# Altium footprint library PCBLib.PcbLib: 5 footprints
Each footprint in its own frame and in the unit in brackets; x right, y up, seen from the top. Pads: shape width x height; smd on the part's side, far side on the other; paste and mask are expansions set on the pad; w line width, h text height; cw(c..) or ccw(c..) is an arc to the next point about the centre after c.
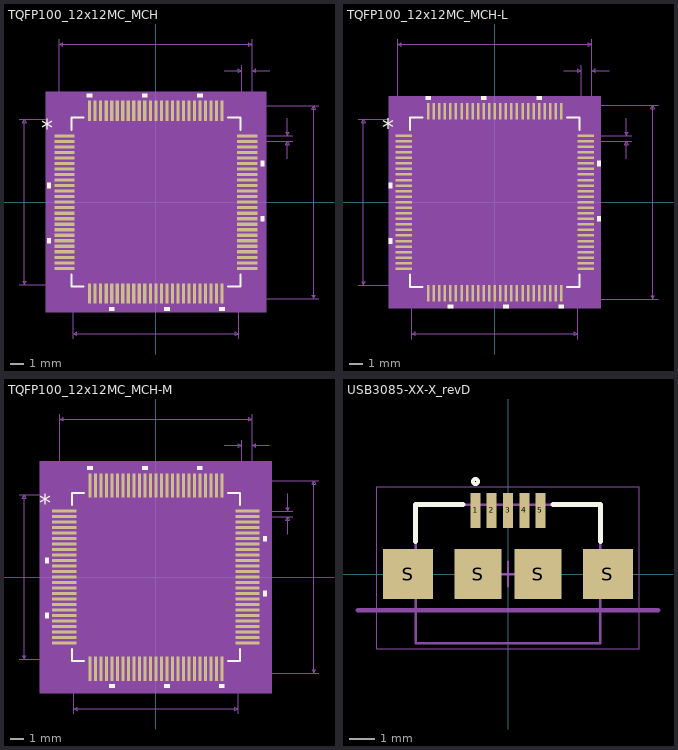
[diagram p0: the footprints below, top view; thin cyan lines are the x and y axes]

## PCBComponent_1 [mil]

## TQFP100_12x12MC_MCH [mil]
pads (100):
  rect 58x9 smd paste+0 mask+0: 1(-260.5,188.98) 2(-260.5,173.23) 3(-260.5,157.48) 4(-260.5,141.73) 5(-260.5,125.98) 6(-260.5,110.24) 7(-260.5,94.49) 8(-260.5,78.74) 9(-260.5,62.99) 10(-260.5,47.24) 11(-260.5,31.5) 12(-260.5,15.75) 13(-260.5,0) 14(-260.5,-15.75) 15(-260.5,-31.5) 16(-260.5,-47.24) 17(-260.5,-62.99) 18(-260.5,-78.74) 19(-260.5,-94.49) 20(-260.5,-110.24) 21(-260.5,-125.98) 22(-260.5,-141.73) 23(-260.5,-157.48) 24(-260.5,-173.23) 25(-260.5,-188.98) 51(260.5,-188.98) 52(260.5,-173.23) 53(260.5,-157.48) 54(260.5,-141.73) 55(260.5,-125.98) 56(260.5,-110.24) 57(260.5,-94.49) 58(260.5,-78.74) 59(260.5,-62.99) 60(260.5,-47.24) 61(260.5,-31.5) 62(260.5,-15.75) 63(260.5,0) 64(260.5,15.75) 65(260.5,31.5) 66(260.5,47.24) 67(260.5,62.99) 68(260.5,78.74) 69(260.5,94.49) 70(260.5,110.24) 71(260.5,125.98) 72(260.5,141.73) 73(260.5,157.48) 74(260.5,173.23) 75(260.5,188.98)
  rect 9x58 smd paste+0 mask+0: 26(-188.98,-260.5) 27(-173.23,-260.5) 28(-157.48,-260.5) 29(-141.73,-260.5) 30(-125.98,-260.5) 31(-110.24,-260.5) 32(-94.49,-260.5) 33(-78.74,-260.5) 34(-62.99,-260.5) 35(-47.24,-260.5) 36(-31.5,-260.5) 37(-15.75,-260.5) 38(0,-260.5) 39(15.75,-260.5) 40(31.5,-260.5) 41(47.24,-260.5) 42(62.99,-260.5) 43(78.74,-260.5) 44(94.49,-260.5) 45(110.24,-260.5) 46(125.98,-260.5) 47(141.73,-260.5) 48(157.48,-260.5) 49(173.23,-260.5) 50(188.98,-260.5) 76(188.98,260.5) 77(173.23,260.5) 78(157.48,260.5) 79(141.73,260.5) 80(125.98,260.5) 81(110.24,260.5) 82(94.49,260.5) 83(78.74,260.5) 84(62.99,260.5) 85(47.24,260.5) 86(31.5,260.5) 87(15.75,260.5) 88(0,260.5) 89(-15.75,260.5) 90(-31.5,260.5) 91(-47.24,260.5) 92(-62.99,260.5) 93(-78.74,260.5) 94(-94.49,260.5) 95(-110.24,260.5) 96(-125.98,260.5) 97(-141.73,260.5) 98(-157.48,260.5) 99(-173.23,260.5) 100(-188.98,260.5)
Top Overlay:
  region: -181.48,299.5 -196.48,299.5 -196.48,309.5 -181.48,309.5
  region: -24,299.5 -39,299.5 -39,309.5 -24,309.5
  region: 133.48,299.5 118.48,299.5 118.48,309.5 133.48,309.5
  region: 299.5,117.74 309.5,117.74 309.5,102.74 299.5,102.74
  region: 299.5,-39.74 309.5,-39.74 309.5,-54.74 299.5,-54.74
  region: 196.48,-299.5 181.48,-299.5 181.48,-309.5 196.48,-309.5
  region: 39,-299.5 24,-299.5 24,-309.5 39,-309.5
  region: -118.48,-299.5 -133.48,-299.5 -133.48,-309.5 -118.48,-309.5
  region: -299.5,-102.74 -309.5,-102.74 -309.5,-117.74 -299.5,-117.74
  region: -299.5,54.74 -309.5,54.74 -309.5,39.74 -299.5,39.74
  lines w6: -241,-206.58 -241,-241 -206.58,-241 ; -241,206.58 -241,241 -206.58,241 ; 206.58,-241 241,-241 241,-206.58 ; 206.58,241 241,241 241,206.58
  text "*" at -327,186.85 h50
Mechanical 5:
  region: 314.5,-314.5 -314.5,-314.5 -314.5,314.5 314.5,314.5
Mechanical 7:
  lines w1: -390.5,-236 -188.98,-236 ; -390.5,236 -188.98,236 ; -275.5,188.98 -275.5,465.5 ; -236,-390.5 -236,-188.98 ; 188.98,-275.5 465.5,-275.5 ; 188.98,275.5 465.5,275.5 ; 195.5,375.5 245.5,375.5 ; 236,-390.5 236,-188.98 ; 245.5,188.98 245.5,390.5 ; 260.5,173.23 390.5,173.23 ; 260.5,188.98 390.5,188.98 ; 275.5,390.5 275.5,188.98 275.5,465.5 ; 325.5,375.5 275.5,375.5 ; 375.5,123.23 375.5,173.23 ; 375.5,238.98 375.5,188.98 ; -375.5,-236 -370.5,-226 -380.5,-226 -375.5,-236 ; -375.5,-236 -375.5,236 ; -375.5,236 -370.5,226 -380.5,226 -375.5,236 ; -275.5,450.5 -265.5,445.5 -265.5,455.5 -275.5,450.5 ; -275.5,450.5 275.5,450.5 ; -236,-375.5 -226,-380.5 -226,-370.5 -236,-375.5 ; -236,-375.5 236,-375.5 ; 236,-375.5 226,-380.5 226,-370.5 236,-375.5 ; 245.5,375.5 235.5,370.5 235.5,380.5 245.5,375.5 ; 275.5,375.5 285.5,370.5 285.5,380.5 275.5,375.5 ; 275.5,450.5 265.5,445.5 265.5,455.5 275.5,450.5 ; 375.5,173.23 380.5,163.23 370.5,163.23 375.5,173.23 ; 375.5,188.98 380.5,198.98 370.5,198.98 375.5,188.98 ; 450.5,-275.5 455.5,-265.5 445.5,-265.5 450.5,-275.5 ; 450.5,-275.5 450.5,275.5 ; 450.5,275.5 455.5,265.5 445.5,265.5 450.5,275.5
  text "0.551in/13.995mm" at 470.5,-12.5 h25
  text "0.472in/11.989mm" at -595.5,-12.5 h25
  text "0.472in/11.989mm" at -100,-420.5 h25
  text "0.551in/13.995mm" at -100,470.5 h25
  text "0.03in/0.762mm" at 173,395.5 h25
  text "0.016in/0.4mm" at 395.5,168.6 h25
  text "Alt 2 Padstyle: OX90Y60D30P" at -337.5,-825.5 h50
  text "Alt 1 Padstyle: OX60Y90D30P" at -337.5,-765.5 h50
  text "Default Vert Padstyle: RX9Y58D0T" at -400,-585.5 h50
  text "Default Horiz Padstyle: RX9Y58D0T" at -412.5,-525.5 h50
Mechanical 13:
  drawing of 405 lines, arcs and shapes, not listed
  text "*" at -233.5,171.85 h50
Mechanical 15:
  region: -203.48,-246 -246,-246 -246,-203.48 -299.5,-203.48 -299.5,203.48 -246,203.48 -246,246 -203.48,246 -203.48,299.5 203.48,299.5 203.48,246 246,246 246,203.48 299.5,203.48 299.5,-203.48 246,-203.48 246,-246 203.48,-246 203.48,-299.5 -203.48,-299.5
  lines w6: -299.5,-203.48 -299.5,203.48 -246,203.48 -246,246 -203.48,246 -203.48,299.5 203.48,299.5 203.48,246 246,246 246,203.48 299.5,203.48 299.5,-203.48 246,-203.48 246,-246 203.48,-246 203.48,-299.5 -203.48,-299.5 -203.48,-246 -246,-246 -246,-203.48 -299.5,-203.48
3D body: height 10, standoff 0, extent 0,0 10,10

## TQFP100_12x12MC_MCH-L [mil]
pads (100):
  rect 46x7 smd paste+0 mask+0: 1(-258.5,188.98) 2(-258.5,173.23) 3(-258.5,157.48) 4(-258.5,141.73) 5(-258.5,125.98) 6(-258.5,110.24) 7(-258.5,94.49) 8(-258.5,78.74) 9(-258.5,62.99) 10(-258.5,47.24) 11(-258.5,31.5) 12(-258.5,15.75) 13(-258.5,0) 14(-258.5,-15.75) 15(-258.5,-31.5) 16(-258.5,-47.24) 17(-258.5,-62.99) 18(-258.5,-78.74) 19(-258.5,-94.49) 20(-258.5,-110.24) 21(-258.5,-125.98) 22(-258.5,-141.73) 23(-258.5,-157.48) 24(-258.5,-173.23) 25(-258.5,-188.98) 51(258.5,-188.98) 52(258.5,-173.23) 53(258.5,-157.48) 54(258.5,-141.73) 55(258.5,-125.98) 56(258.5,-110.24) 57(258.5,-94.49) 58(258.5,-78.74) 59(258.5,-62.99) 60(258.5,-47.24) 61(258.5,-31.5) 62(258.5,-15.75) 63(258.5,0) 64(258.5,15.75) 65(258.5,31.5) 66(258.5,47.24) 67(258.5,62.99) 68(258.5,78.74) 69(258.5,94.49) 70(258.5,110.24) 71(258.5,125.98) 72(258.5,141.73) 73(258.5,157.48) 74(258.5,173.23) 75(258.5,188.98)
  rect 7x46 smd paste+0 mask+0: 26(-188.98,-258.5) 27(-173.23,-258.5) 28(-157.48,-258.5) 29(-141.73,-258.5) 30(-125.98,-258.5) 31(-110.24,-258.5) 32(-94.49,-258.5) 33(-78.74,-258.5) 34(-62.99,-258.5) 35(-47.24,-258.5) 36(-31.5,-258.5) 37(-15.75,-258.5) 38(0,-258.5) 39(15.75,-258.5) 40(31.5,-258.5) 41(47.24,-258.5) 42(62.99,-258.5) 43(78.74,-258.5) 44(94.49,-258.5) 45(110.24,-258.5) 46(125.98,-258.5) 47(141.73,-258.5) 48(157.48,-258.5) 49(173.23,-258.5) 50(188.98,-258.5) 76(188.98,258.5) 77(173.23,258.5) 78(157.48,258.5) 79(141.73,258.5) 80(125.98,258.5) 81(110.24,258.5) 82(94.49,258.5) 83(78.74,258.5) 84(62.99,258.5) 85(47.24,258.5) 86(31.5,258.5) 87(15.75,258.5) 88(0,258.5) 89(-15.75,258.5) 90(-31.5,258.5) 91(-47.24,258.5) 92(-62.99,258.5) 93(-78.74,258.5) 94(-94.49,258.5) 95(-110.24,258.5) 96(-125.98,258.5) 97(-141.73,258.5) 98(-157.48,258.5) 99(-173.23,258.5) 100(-188.98,258.5)
Top Overlay:
  region: -181.48,291.5 -196.48,291.5 -196.48,301.5 -181.48,301.5
  region: -24,291.5 -39,291.5 -39,301.5 -24,301.5
  region: 133.48,291.5 118.48,291.5 118.48,301.5 133.48,301.5
  region: 291.5,117.74 301.5,117.74 301.5,102.74 291.5,102.74
  region: 291.5,-39.74 301.5,-39.74 301.5,-54.74 291.5,-54.74
  region: 196.48,-291.5 181.48,-291.5 181.48,-301.5 196.48,-301.5
  region: 39,-291.5 24,-291.5 24,-301.5 39,-301.5
  region: -118.48,-291.5 -133.48,-291.5 -133.48,-301.5 -118.48,-301.5
  region: -291.5,-102.74 -301.5,-102.74 -301.5,-117.74 -291.5,-117.74
  region: -291.5,54.74 -301.5,54.74 -301.5,39.74 -291.5,39.74
  lines w6: -241,-205.58 -241,-241 -205.58,-241 ; -241,205.58 -241,241 -205.58,241 ; 205.58,-241 241,-241 241,-205.58 ; 205.58,241 241,241 241,205.58
  text "*" at -319,186.85 h50
Mechanical 5:
  region: 300.5,-300.5 -300.5,-300.5 -300.5,300.5 300.5,300.5
Mechanical 7:
  lines w1: -388.5,-236 -188.98,-236 ; -388.5,236 -188.98,236 ; -275.5,188.98 -275.5,463.5 ; -236,-388.5 -236,-188.98 ; 188.98,-275.5 463.5,-275.5 ; 188.98,275.5 463.5,275.5 ; 195.5,373.5 245.5,373.5 ; 236,-388.5 236,-188.98 ; 245.5,188.98 245.5,388.5 ; 258.5,173.23 388.5,173.23 ; 258.5,188.98 388.5,188.98 ; 275.5,388.5 275.5,188.98 275.5,463.5 ; 325.5,373.5 275.5,373.5 ; 373.5,123.23 373.5,173.23 ; 373.5,238.98 373.5,188.98 ; -373.5,-236 -368.5,-226 -378.5,-226 -373.5,-236 ; -373.5,-236 -373.5,236 ; -373.5,236 -368.5,226 -378.5,226 -373.5,236 ; -275.5,448.5 -265.5,443.5 -265.5,453.5 -275.5,448.5 ; -275.5,448.5 275.5,448.5 ; -236,-373.5 -226,-378.5 -226,-368.5 -236,-373.5 ; -236,-373.5 236,-373.5 ; 236,-373.5 226,-378.5 226,-368.5 236,-373.5 ; 245.5,373.5 235.5,368.5 235.5,378.5 245.5,373.5 ; 275.5,373.5 285.5,368.5 285.5,378.5 275.5,373.5 ; 275.5,448.5 265.5,443.5 265.5,453.5 275.5,448.5 ; 373.5,173.23 378.5,163.23 368.5,163.23 373.5,173.23 ; 373.5,188.98 378.5,198.98 368.5,198.98 373.5,188.98 ; 448.5,-275.5 453.5,-265.5 443.5,-265.5 448.5,-275.5 ; 448.5,-275.5 448.5,275.5 ; 448.5,275.5 453.5,265.5 443.5,265.5 448.5,275.5
  text "0.551in/13.995mm" at 468.5,-12.5 h25
  text "0.472in/11.989mm" at -593.5,-12.5 h25
  text "0.472in/11.989mm" at -100,-418.5 h25
  text "0.551in/13.995mm" at -100,468.5 h25
  text "0.03in/0.762mm" at 173,393.5 h25
  text "0.016in/0.4mm" at 393.5,168.6 h25
  text "Alt 2 Padstyle: OX90Y60D30P" at -337.5,-823.5 h50
  text "Alt 1 Padstyle: OX60Y90D30P" at -337.5,-763.5 h50
  text "Default Vert Padstyle: RX7Y46D0T" at -400,-583.5 h50
  text "Default Horiz Padstyle: RX7Y46D0T" at -412.5,-523.5 h50
Mechanical 13:
  drawing of 405 lines, arcs and shapes, not listed
  text "*" at -233.5,171.85 h50
Mechanical 15:
  region: -196.48,-240 -240,-240 -240,-196.48 -285.5,-196.48 -285.5,196.48 -240,196.48 -240,240 -196.48,240 -196.48,285.5 196.48,285.5 196.48,240 240,240 240,196.48 285.5,196.48 285.5,-196.48 240,-196.48 240,-240 196.48,-240 196.48,-285.5 -196.48,-285.5
  lines w6: -285.5,-196.48 -285.5,196.48 -240,196.48 -240,240 -196.48,240 -196.48,285.5 196.48,285.5 196.48,240 240,240 240,196.48 285.5,196.48 285.5,-196.48 240,-196.48 240,-240 196.48,-240 196.48,-285.5 -196.48,-285.5 -196.48,-240 -240,-240 -240,-196.48 -285.5,-196.48
3D body: height 10, standoff 0, extent 0,0 10,10

## TQFP100_12x12MC_MCH-M [mil]
pads (100):
  rect 70x9 smd paste+0 mask+0: 1(-262.5,188.98) 2(-262.5,173.23) 3(-262.5,157.48) 4(-262.5,141.73) 5(-262.5,125.98) 6(-262.5,110.24) 7(-262.5,94.49) 8(-262.5,78.74) 9(-262.5,62.99) 10(-262.5,47.24) 11(-262.5,31.5) 12(-262.5,15.75) 13(-262.5,0) 14(-262.5,-15.75) 15(-262.5,-31.5) 16(-262.5,-47.24) 17(-262.5,-62.99) 18(-262.5,-78.74) 19(-262.5,-94.49) 20(-262.5,-110.24) 21(-262.5,-125.98) 22(-262.5,-141.73) 23(-262.5,-157.48) 24(-262.5,-173.23) 25(-262.5,-188.98) 51(262.5,-188.98) 52(262.5,-173.23) 53(262.5,-157.48) 54(262.5,-141.73) 55(262.5,-125.98) 56(262.5,-110.24) 57(262.5,-94.49) 58(262.5,-78.74) 59(262.5,-62.99) 60(262.5,-47.24) 61(262.5,-31.5) 62(262.5,-15.75) 63(262.5,0) 64(262.5,15.75) 65(262.5,31.5) 66(262.5,47.24) 67(262.5,62.99) 68(262.5,78.74) 69(262.5,94.49) 70(262.5,110.24) 71(262.5,125.98) 72(262.5,141.73) 73(262.5,157.48) 74(262.5,173.23) 75(262.5,188.98)
  rect 9x70 smd paste+0 mask+0: 26(-188.98,-262.5) 27(-173.23,-262.5) 28(-157.48,-262.5) 29(-141.73,-262.5) 30(-125.98,-262.5) 31(-110.24,-262.5) 32(-94.49,-262.5) 33(-78.74,-262.5) 34(-62.99,-262.5) 35(-47.24,-262.5) 36(-31.5,-262.5) 37(-15.75,-262.5) 38(0,-262.5) 39(15.75,-262.5) 40(31.5,-262.5) 41(47.24,-262.5) 42(62.99,-262.5) 43(78.74,-262.5) 44(94.49,-262.5) 45(110.24,-262.5) 46(125.98,-262.5) 47(141.73,-262.5) 48(157.48,-262.5) 49(173.23,-262.5) 50(188.98,-262.5) 76(188.98,262.5) 77(173.23,262.5) 78(157.48,262.5) 79(141.73,262.5) 80(125.98,262.5) 81(110.24,262.5) 82(94.49,262.5) 83(78.74,262.5) 84(62.99,262.5) 85(47.24,262.5) 86(31.5,262.5) 87(15.75,262.5) 88(0,262.5) 89(-15.75,262.5) 90(-31.5,262.5) 91(-47.24,262.5) 92(-62.99,262.5) 93(-78.74,262.5) 94(-94.49,262.5) 95(-110.24,262.5) 96(-125.98,262.5) 97(-141.73,262.5) 98(-157.48,262.5) 99(-173.23,262.5) 100(-188.98,262.5)
Top Overlay:
  region: -181.48,307.5 -196.48,307.5 -196.48,317.5 -181.48,317.5
  region: -24,307.5 -39,307.5 -39,317.5 -24,317.5
  region: 133.48,307.5 118.48,307.5 118.48,317.5 133.48,317.5
  region: 307.5,117.74 317.5,117.74 317.5,102.74 307.5,102.74
  region: 307.5,-39.74 317.5,-39.74 317.5,-54.74 307.5,-54.74
  region: 196.48,-307.5 181.48,-307.5 181.48,-317.5 196.48,-317.5
  region: 39,-307.5 24,-307.5 24,-317.5 39,-317.5
  region: -118.48,-307.5 -133.48,-307.5 -133.48,-317.5 -118.48,-317.5
  region: -307.5,-102.74 -317.5,-102.74 -317.5,-117.74 -307.5,-117.74
  region: -307.5,54.74 -317.5,54.74 -317.5,39.74 -307.5,39.74
  lines w6: -241,-206.58 -241,-241 -206.58,-241 ; -241,206.58 -241,241 -206.58,241 ; 206.58,-241 241,-241 241,-206.58 ; 206.58,241 241,241 241,206.58
  text "*" at -335,186.85 h50
Mechanical 5:
  region: 332.5,-332.5 -332.5,-332.5 -332.5,332.5 332.5,332.5
Mechanical 7:
  lines w1: -392.5,-236 -188.98,-236 ; -392.5,236 -188.98,236 ; -275.5,188.98 -275.5,467.5 ; -236,-392.5 -236,-188.98 ; 188.98,-275.5 467.5,-275.5 ; 188.98,275.5 467.5,275.5 ; 195.5,377.5 245.5,377.5 ; 236,-392.5 236,-188.98 ; 245.5,188.98 245.5,392.5 ; 262.5,173.23 392.5,173.23 ; 262.5,188.98 392.5,188.98 ; 275.5,392.5 275.5,188.98 275.5,467.5 ; 325.5,377.5 275.5,377.5 ; 377.5,123.23 377.5,173.23 ; 377.5,238.98 377.5,188.98 ; -377.5,-236 -372.5,-226 -382.5,-226 -377.5,-236 ; -377.5,-236 -377.5,236 ; -377.5,236 -372.5,226 -382.5,226 -377.5,236 ; -275.5,452.5 -265.5,447.5 -265.5,457.5 -275.5,452.5 ; -275.5,452.5 275.5,452.5 ; -236,-377.5 -226,-382.5 -226,-372.5 -236,-377.5 ; -236,-377.5 236,-377.5 ; 236,-377.5 226,-382.5 226,-372.5 236,-377.5 ; 245.5,377.5 235.5,372.5 235.5,382.5 245.5,377.5 ; 275.5,377.5 285.5,372.5 285.5,382.5 275.5,377.5 ; 275.5,452.5 265.5,447.5 265.5,457.5 275.5,452.5 ; 377.5,173.23 382.5,163.23 372.5,163.23 377.5,173.23 ; 377.5,188.98 382.5,198.98 372.5,198.98 377.5,188.98 ; 452.5,-275.5 457.5,-265.5 447.5,-265.5 452.5,-275.5 ; 452.5,-275.5 452.5,275.5 ; 452.5,275.5 457.5,265.5 447.5,265.5 452.5,275.5
  text "0.551in/13.995mm" at 472.5,-12.5 h25
  text "0.472in/11.989mm" at -597.5,-12.5 h25
  text "0.472in/11.989mm" at -100,-422.5 h25
  text "0.551in/13.995mm" at -100,472.5 h25
  text "0.03in/0.762mm" at 173,397.5 h25
  text "0.016in/0.4mm" at 397.5,168.6 h25
  text "Alt 2 Padstyle: OX90Y60D30P" at -337.5,-827.5 h50
  text "Alt 1 Padstyle: OX60Y90D30P" at -337.5,-767.5 h50
  text "Default Vert Padstyle: RX9Y70D0T" at -400,-587.5 h50
  text "Default Horiz Padstyle: RX9Y70D0T" at -412.5,-527.5 h50
Mechanical 13:
  drawing of 405 lines, arcs and shapes, not listed
  text "*" at -233.5,171.85 h50
Mechanical 15:
  region: -213.48,-256 -256,-256 -256,-213.48 -317.5,-213.48 -317.5,213.48 -256,213.48 -256,256 -213.48,256 -213.48,317.5 213.48,317.5 213.48,256 256,256 256,213.48 317.5,213.48 317.5,-213.48 256,-213.48 256,-256 213.48,-256 213.48,-317.5 -213.48,-317.5
  lines w6: -317.5,-213.48 -317.5,213.48 -256,213.48 -256,256 -213.48,256 -213.48,317.5 213.48,317.5 213.48,256 256,256 256,213.48 317.5,213.48 317.5,-213.48 256,-213.48 256,-256 213.48,-256 213.48,-317.5 -213.48,-317.5 -213.48,-256 -256,-256 -256,-213.48 -317.5,-213.48
3D body: height 10, standoff 0, extent 0,0 10,10

## USB3085-XX-X_revD [mm] "Micro USB Receptacle, Type AB, SMT, Horizontal, Bottom Mount, without Peg"
height 2.7
pads (9):
  rect 0.4x1.4 smd: 1(-1.3,2.55) 2(-0.65,2.55) 3(0,2.55) 4(0.65,2.55) 5(1.3,2.55)
  rect 2x2 smd: S(-4,0) S(4,0)
  rect 1.9x2 smd: S(-1.2,0) S(1.2,0)
Top Overlay:
  circle w0.15: c-1.3,3.7 r0.1
  lines w0.2: -3.7,1.3 -3.7,2.775 -1.8,2.775 ; 1.8,2.775 3.7,2.775 3.7,1.3
Mechanical 1:
  lines w0.2: -6,-1.45 6,-1.45
  text "PCB Edge" at -1.9,-2.2 h0.5
Mechanical 13:
  lines w0.1: -3.7,-2.775 -3.7,2.775 3.7,2.775 3.7,-2.775 -3.7,-2.775
Mechanical 15:
  lines w0.05: -5.25,-3 -5.25,3.5 5.25,3.5 5.25,-3 -5.25,-3
  lines w0.1: -0.5,0 0.5,0 ; 0,-0.5 0,0.5
3D body "usb3085-30-a_revd.step": height 2.59, standoff -0.19, extent -4.4,-2.715 4.4,2.775